# Altium schematic symbol library C0805C683K5REC.SchLib: 2 symbols
Pins are listed as number, name and electrical type; pins without a type are passive.

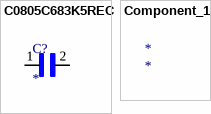
[diagram p0: symbols C0805C683K5REC to Component_1]

## C0805C683K5REC
designator C?
MF: {'manufacturer': u'KEMET'}; MP: C0805C683K5REC; Value: *; Availability: Unavailable; Price: None; Package: None
footprint CAPC2012X110N
pins: 1, 2

## Component_1
designator *